# EAGLE library part SIM8060601400A (library gct)
NANO SIM CARD CONNECTOR
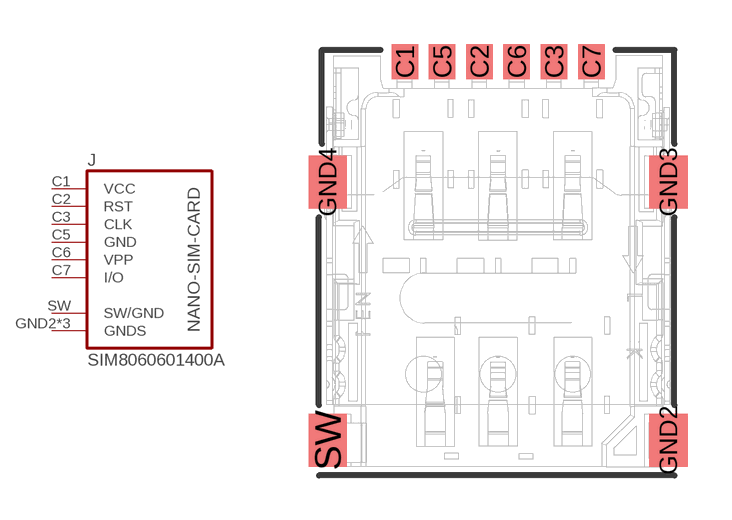
[diagram p0: symbol with the pads of SIM8060601400A; footprint SIM8060601400A]

Designator prefix J

## SIM8060601400A  [SIM8060601400A]
C1  VCC
C2  RST
C3  CLK
C5  GND
C6  VPP
C7  I/O
GND2  GNDS
GND3  GNDS
GND4  GNDS
SW  SW/GND

## Footprint SIM8060601400A (pad centres in mm)
NANO SIM CARD CONNECTOR
smd 0.9 x 1.2: C1 -3.175,13.8; C2 -0.635,13.8; C3 1.905,13.8; C5 -1.905,13.8; C6 0.635,13.8; C7 3.175,13.8
smd 1.3 x 1.8: GND2 5.8,0.9; GND3 5.8,9.7; GND4 -5.8,9.7; SW -5.8,0.9